# EAGLE library part 618062325223 (library InputOutputIO (rev18a))
WR-DSUB Female High Density Angled PCB Connector without Hex Screw, 62 Pins=>Code : Con_I-O_DSUB_PCB_Female_wo-screw_618062325223 <http://katalog.we-online.de/media/images/eican/Con_I-O_DSUB_PCB_Female_wo-screw_6180xx325223_pf2.jpg> Details see: http://katalog.we-online.de/en/em/DSUB_FEMALE_HIGH_DENSITY_ANGLED_PCB_CONNECTOR_W_O_HEX_SCREW_6180XX325223 Created 2014-07-10, Karrer Zheng 2014 (C) Würth Elektronik
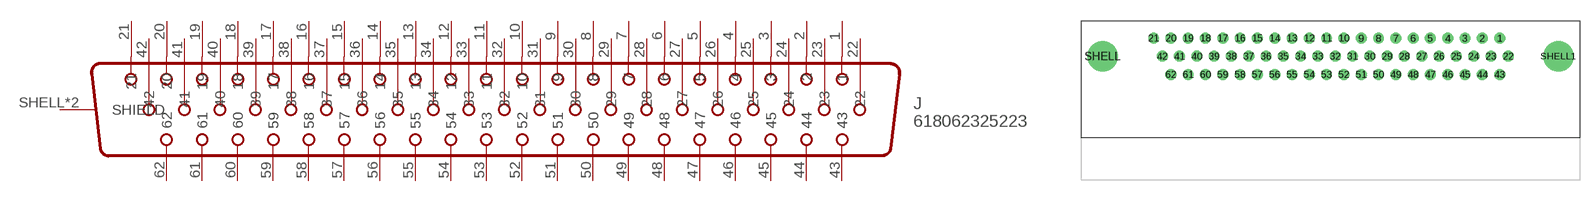
[diagram p63: symbol with the pads of 618062325223; footprint 618062325223]

Designator prefix J

## 618062325223  [618062325223]
1  1
2  2
3  3
4  4
5  5
6  6
7  7
8  8
9  9
10  10
11  11
12  12
13  13
14  14
15  15
16  16
17  17
18  18
19  19
20  20
21  21
22  22
23  23
24  24
25  25
26  26
27  27
28  28
29  29
30  30
31  31
32  32
33  33
34  34
35  35
36  36
37  37
38  38
39  39
40  40
41  41
42  42
43  43
44  44
45  45
46  46
47  47
48  48
49  49
50  50
51  51
52  52
53  53
54  54
55  55
56  56
57  57
58  58
59  59
60  60
61  61
62  62
SHELL  SHIELD
SHELL1  SHIELD

## Footprint 618062325223 (pad centres in mm)
WR-DSUB Female High Density Angled PCB Connector without Hex Screw, 62 Pins
drill 1: 1 23.55,2.54; 2 21.14,2.54; 3 18.73,2.54; 4 16.32,2.54; 5 13.91,2.54; 6 11.5,2.54; 7 9.09,2.54; 8 6.68,2.54; 9 4.27,2.54; 10 1.86,2.54; 11 -0.55,2.54; 12 -2.96,2.54; 13 -5.37,2.54; 14 -7.78,2.54; 15 -10.19,2.54; 16 -12.6,2.54; 17 -15.01,2.54; 18 -17.42,2.54; 19 -19.83,2.54; 20 -22.24,2.54; 21 -24.65,2.54; 22 24.75,0; 23 22.34,0; 24 19.93,0; 25 17.52,0; 26 15.11,0; 27 12.7,0; 28 10.29,0; 29 7.88,0; 30 5.47,0; 31 3.06,0; 32 0.65,0; 33 -1.76,0; 34 -4.17,0; 35 -6.58,0; 36 -8.99,0; 37 -11.4,0; 38 -13.81,0; 39 -16.22,0; 40 -18.63,0; 41 -21.04,0; 42 -23.44,0; 43 23.55,-2.54; 44 21.14,-2.54; 45 18.73,-2.54; 46 16.32,-2.54; 47 13.91,-2.54; 48 11.5,-2.54; 49 9.09,-2.54; 50 6.68,-2.54; 51 4.27,-2.54; 52 1.86,-2.54; 53 -0.55,-2.54; 54 -2.96,-2.54; 55 -5.37,-2.54; 56 -7.78,-2.54; 57 -10.19,-2.54; 58 -12.6,-2.54; 59 -15.01,-2.54; 60 -17.42,-2.54; 61 -19.83,-2.54; 62 -22.24,-2.54
drill 3.2: SHELL -31.75,0; SHELL1 31.75,0